# Altium schematic symbol library Azurspace.SchLib: 1 symbol
Pins are listed as number, name and electrical type; pins without a type are passive.

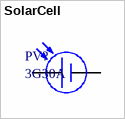
[diagram p0: symbol SolarCell]

## SolarCell
designator PV?, comment 3G30A
pins: 1 Pos, 2 Neg